# Altium footprint library Altium_AC_DC_Jack.PcbLib: 2 footprints
Each footprint in its own frame and in the unit in brackets; x right, y up, seen from the top. Pads: shape width x height; smd on the part's side, far side on the other; paste and mask are expansions set on the pad; w line width, h text height; cw(c..) or ccw(c..) is an arc to the next point about the centre after c.
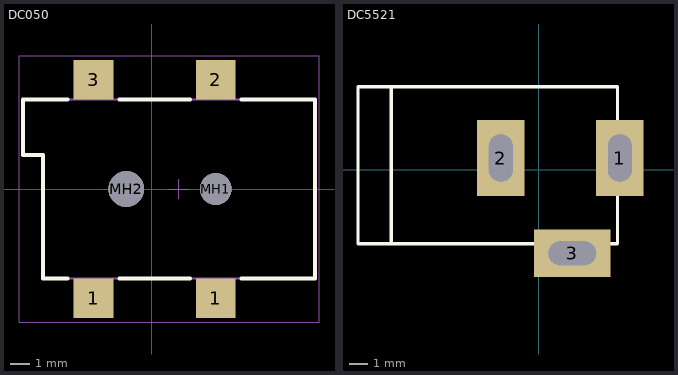
[diagram p0: the footprints below, top view; thin cyan lines are the x and y axes]

## DC050 [mm]
pads (6):
  rect 2x2 smd: 1(-2.92,-5.5) 1(3.23,-5.5) 2(3.23,5.5) 3(-2.92,5.5)
  round 1.6 hole 1.6 unplated: MH1(3.23,0)
  round 1.8 hole 1.8 unplated: MH2(-1.27,0)
Top Overlay:
  lines w0.2: -4.22,-4.5 -5.47,-4.5 -5.47,1.7 -6.47,1.7 -6.47,4.5 -4.22,4.5 ; -1.62,-4.5 1.93,-4.5 ; -1.62,4.5 1.93,4.5 ; 4.53,-4.5 8.23,-4.5 8.23,4.5 4.53,4.5
Top Designator:
  text ".Designator" at 1.88,-7.498 h1.5
Top Component Outline:
  lines w0.1: -3.67,-4.5 -3.67,-6.25 -2.17,-6.25 -2.17,-4.5 ; -3.67,4.5 -3.67,6.25 -2.17,6.25 -2.17,4.5 ; 2.48,-4.5 2.48,-6.25 3.98,-6.25 3.98,-4.5 ; 2.48,4.5 2.48,6.25 3.98,6.25 3.98,4.5 ; -6.47,1.7 -6.47,4.5 8.23,4.5 8.23,-4.5 -5.47,-4.5 -5.47,1.7 -6.47,1.7
Top 3D Body:
  lines w0.1: -3.67,-4.5 -3.67,-6.25 -2.17,-6.25 -2.17,-4.5 ; -3.67,4.5 -3.67,6.25 -2.17,6.25 -2.17,4.5 ; 2.48,-4.5 2.48,-6.25 3.98,-6.25 3.98,-4.5 ; 2.48,4.5 2.48,6.25 3.98,6.25 3.98,4.5 ; -6.47,1.7 -5.47,1.7 -5.47,-4.5 8.23,-4.5 8.23,4.5 -6.47,4.5 -6.47,1.7
Top Courtyard:
  lines w0.05: 0.88,0 1.88,0 ; 1.38,-0.5 1.38,0.5 ; -6.67,-6.7 8.43,-6.7 8.43,6.7 -6.67,6.7 -6.67,-6.7
3D body "694106106102.stp": height 11.05, standoff -1.15, extent -6.47,-6.25 8.23,6.25

## DC5521 [mil] "Jac DC input"
height 200
pads (3):
  rect 100x160 hole 50 slot 100 at 90 deg: 1(170,25) 2(-80,25)
  rect 160x100 hole 50 slot 100 at 0 deg: 3(70,-175)
Top Overlay:
  lines w7: -310,-155 -310,175 ; -380,-155 -380,175 165,175 165,-155 -380,-155
Top Designator:
  text ".Designator" at -21.58,297 h59.06
3D body "SW3dPS-dc range - dc connector[4840.2201].STEP": height 433.67, standoff -137.2, extent -365.35,-180.12 179,194.12